# Altium schematic symbol library Header-2x5.SchLib: 1 symbol
Pins are listed as number, name and electrical type; pins without a type are passive.

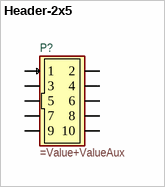
[diagram p0: symbol Header-2x5]

## Header-2x5
designator P?
=Description
pins: 1, 2, 3, 4, 5, 6, 7, 8, 9, 10